# EAGLE library part BTS50050 (library hsk_2012)
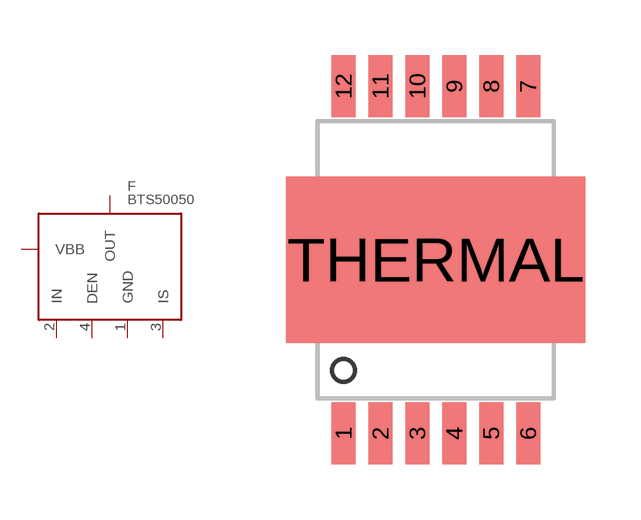
[diagram p24: symbol with the pads of PG-DSO-12-16; footprint PG-DSO-12-16]

Designator prefix F

## BTS50050_PG  [PG-DSO-12-16]
1  GND
2  IN
3  IS
4  DEN
8  OUT
9  OUT
10  OUT
11  OUT
THERMAL  VBB

## Footprint PG-DSO-12-16 (pad centres in mm)
smd 0.65 x 1.67: 1 -2.5,-4.7; 2 -1.5,-4.7; 3 -0.5,-4.7; 4 0.5,-4.7; 5 1.5,-4.7; 6 2.5,-4.7; 7 2.5,4.7; 8 1.5,4.7; 9 0.5,4.7; 10 -0.5,4.7; 11 -1.5,4.7; 12 -2.5,4.7
smd 8.1 x 4.5: THERMAL 0,0